# Altium schematic symbol library LIB_SCH_Main.SchLib: 26 symbols
Pins are listed as number, name and electrical type; pins without a type are passive.

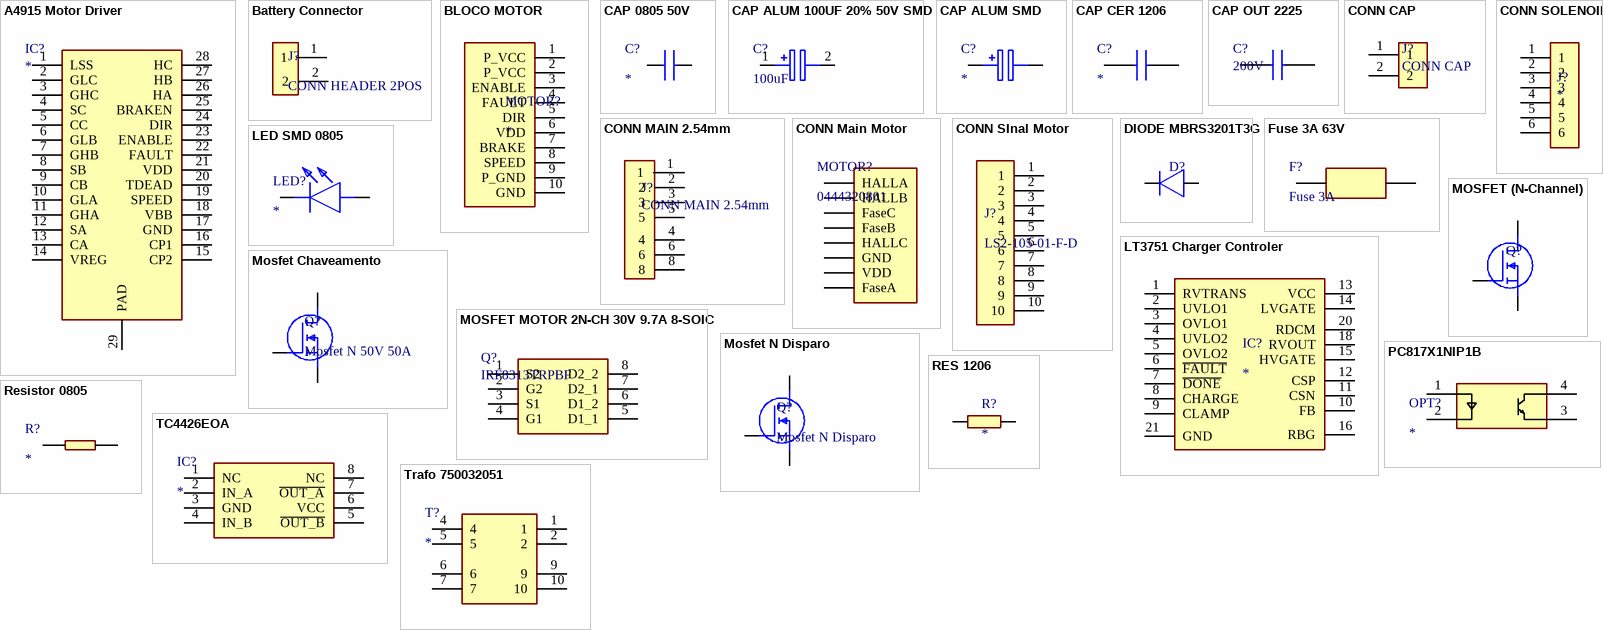
[diagram p0: symbols A4915 Motor Driver to Trafo 750032051]

## A4915 Motor Driver
designator IC?
Integrated Circuit / 28-Pin TSSOP / with Exposed Thermal Pad / https://pdf1.alldatasheet.com/datasheet-pdf/view/848035/ALLEGRO/A4915.html; Manufacturer_Name: Allegro Microsystems; Manufacturer_Part_Number: A4915MLPTR-T; Datasheet Link: http://www.allegromicro.com/~/media/Files/Datasheets/A4915-Datasheet.ashx; Height: 1.2mm
footprint A4915 Motor Driver (28-Pin TSSOP  with Exposed Thermal Pad)
pins: 1 LSS, 2 GLC, 3 GHC, 4 SC, 5 CC, 6 GLB, 7 GHB, 8 SB, 9 CB, 10 GLA, 11 GHA, 12 SA, 13 CA, 14 VREG, 15 CP2, 16 CP1, 17 GND, 18 VBB, 19 SPEED, 20 TDEAD, 21 VDD, 22 FAULT, 23 ENABLE, 24 DIR, 25 BRAKEN, 26 HA, 27 HB, 28 HC, 29 PAD

## Battery Connector
designator J?, comment CONN HEADER 2POS
CONN HEADER R/A 2POS 2.54MM / 22-05-3021 / WM4300-ND; Manufacturer_Name: Molex; Allied_Number: 70190620; Datasheet Link: http://www.molex.com/webdocs/datasheets/pdf/en-us/0022053031_PCB_HEADERS.pdf; Manufacturer_Part_Number: 22-05-3021; Mouser Part Number: 538-22-05-3021; Mouser Price/Stock: https://www.mouser.com/Search/Refine.aspx?Keyword=538-22-05-3021; RS Part Number: 6795448; RS Price/Stock: https://uk.rs-online.com/web/p/products/6795448; Allied Price/Stock: https://www.alliedelec.com/molex-incorporated-22-05-3021/70190620/
footprint Battery Connector (22-05-3021)
pins: 1, 2

## BLOCO MOTOR
designator MOTOR?
footprint BlocoMotor
pins: 1 P_VCC, 2 P_VCC, 3 ENABLE, 4 FAULT, 5 DIR, 6 VDD, 7 BRAKE, 8 SPEED, 9 P_GND, 10 GND

## CAP 0805 50V
designator C?
Capacitor / 08055A101JAT2A; Manufacturer_Name: AVX; Allied_Number: 70474488; Datasheet Link: https://componentsearchengine.com/Datasheets/1/06031A100FAT2A.pdf; Height: 0.94mm; Manufacturer_Part_Number: 08055A101JAT2A; Mouser Part Number: 581-08055A101J; Mouser Price/Stock: https://www.mouser.com/Search/Refine.aspx?Keyword=581-08055A101J; RS Part Number: 1243222; RS Price/Stock: https://uk.rs-online.com/web/p/products/1243222; Allied Price/Stock: https://www.alliedelec.com/avx-08055a101jat2a/70474488/
footprint CAP0805 50v (CAPC2012X94N)
pins: 1, 2

## CAP ALUM 100UF 20% 50V SMD
designator C?, comment 100uF
100µF 50V Aluminum Electrolytic Capacitors Radial, Can - SMD 5000 Hrs @ 105°C / UCD1H101MNL1GS / 493-6388-6-ND; Manufacturer_Name: Nichicon; Allied_Number: 70409359; Datasheet Link: http://www.nichicon.co.jp/english/products/pdfs/e-ucd.pdf; Height: 10.5mm; Manufacturer_Part_Number: UCD1H101MNL1GS; Mouser Part Number: 647-UCD1H101MNL1GS; Mouser Price/Stock: https://www.mouser.com/Search/Refine.aspx?Keyword=647-UCD1H101MNL1GS; RS Part Number: 7151372P; RS Price/Stock: http://uk.rs-online.com/web/p/products/7151372P; Allied Price/Stock: https://www.alliedelec.com/nichicon-ucd1h101mnl1gs/70409359/
footprint CAP ALUM 100UF (CAP ALUM 100UF 20% 50V SMD)
pins: 1 +, 2 -

## CAP ALUM SMD
designator C?
Capacitor Polarised / EEE-FK1E101P / PCE3796TR-ND; Manufacturer_Name: Panasonic; Allied_Number: 70258245; Datasheet Link: https://industrial.panasonic.com/cdbs/www-data/pdf/RDE0000/ABA0000C1181.pdf; Height: 6.5mm; Manufacturer_Part_Number: EEE-FK1E101P; Mouser Part Number: 667-EEE-FK1E101P; Mouser Price/Stock: https://www.mouser.com/Search/Refine.aspx?Keyword=667-EEE-FK1E101P; Allied Price/Stock: https://www.alliedelec.com/panasonic-eee-fk1e101p/70258245/
footprint CAP ALUM SMD (CAPAE830X650N)
pins: 1 +, 2 -

## CAP CER 1206
designator C?
Capacitor C3216C0G1H103J060AA; Manufacturer_Name: TDK; Datasheet Link: https://product.tdk.com/info/en/catalog/datasheets/mlcc_commercial_midvoltage_en.pdf; Height: 0.75mm; Manufacturer_Part_Number: C3216C0G1H103J060AA; Mouser Part Number: 810-C3216C0G1H103J-1; Mouser Price/Stock: https://www.mouser.com/Search/Refine.aspx?Keyword=810-C3216C0G1H103J-1; RS Part Number: 7407467P; RS Price/Stock: http://uk.rs-online.com/web/p/products/7407467P
footprint CAPCER1206 (CAPC3317X75N)
pins: 1, 2

## CAP OUT 2225
designator C?, comment 200V
Capacitor / CAP CER 1UF 200V X7R 2225 / 720-1136-1-ND / VJ2225Y105KXCAT; Manufacturer_Name: AVX; Manufacturer_Part_Number: 2225HC103KAZ1A; Datasheet Link: http://datasheets.avx.com/HV-FlexitermMLCC.pdf; Height: 3.4mm; Mouser Part Number: 581-2225HC103KAZ1A; Mouser Price/Stock: https://www.mouser.com/Search/Refine.aspx?Keyword=581-2225HC103KAZ1A
footprint CAP OUT 2225 (CAP CER 200V 2225)
pins: 1, 2

## CONN CAP
designator J?
Connector / CONN HEADER VERT 2POS 3.96MM / 0009652028 / WM18823-ND; Manufacturer_Name: Molex; Allied_Number: 70374002; Datasheet Link: https://www.molex.com/webdocs/datasheets/pdf/en-us/0009652028_PCB_HEADERS.pdf; Height: 14.25mm; Manufacturer_Part_Number: 09-65-2028; Mouser Part Number: 538-09-65-2028; Mouser Price/Stock: https://www.mouser.com/Search/Refine.aspx?Keyword=538-09-65-2028; RS Part Number: 6705237P; RS Price/Stock: http://uk.rs-online.com/web/p/products/6705237P; Allied Price/Stock: https://www.alliedelec.com/molex-incorporated-09-65-2028/70374002/
footprint CONN CAP (CONN HEADER VERT 2POS 3.96MM)
pins: 1, 2

## CONN MAIN 2.54mm
designator J?
Connector / CONN HEADER VERT 8POS 2.54MM / M20-9980445 / 952-2122-ND; Manufacturer_Name: FCI; Manufacturer_Part_Number: 20021311-00010T4LF; Datasheet Link: http://portal.fciconnect.com/Comergent//fci/drawing/20021311.pdf; Height: 4.6mm; Mouser Part Number: 649-221311-00010T4LF; Mouser Price/Stock: https://www.mouser.com/Search/Refine.aspx?Keyword=649-221311-00010T4LF
footprint CONN MAIN 2.54mm (CONN HEADER VERT 8POS 2.54MM)
pins: 1, 2, 3, 4, 5, 6, 8

## CONN Main Motor
designator MOTOR?, comment 0444320801
CONN HEADER VERT 8POS 3MM / 0444320801 / Connector Header Through Hole 8 position 0.118" (3.00mm); Manufacturer_Name: Molex; Manufacturer_Part_Number: 0444320802; Datasheet Link: http://static6.arrow.com/aropdfconversion/70af9c395913d6e0132bcfc0bf15a6e7757c94/0444320802_pcb_headers.pdf; Height: 11mm
footprint CONN Main Motor (CONN HEADER VERT 8POS 3MM)
pins: 1 HALLA, 2 HALLB, 3 FaseC, 4 FaseB, 5 HALLC, 6 GND, 7 VDD, 8 FaseA

## CONN SInal Motor
designator J?, comment LS2-105-01-F-D
CONN SELF-MATE 10POS VERT GOLD / SAM11451-ND / LS2-105-01-F-D /; Manufacturer_Name: FCI; Manufacturer_Part_Number: 10132797-015100LF; Description: Board to Board & Mezzanine Connectors 4.3mm Height,Dbl Rw 10P; Datasheet Link: https://www.amphenol-icc.com/media/wysiwyg/files/drawing/10132797.pdf; Height: 2mm; Mouser Part Number: 649-10132797015100LF; Mouser Price/Stock: https://www.mouser.com/Search/Refine.aspx?Keyword=649-10132797015100LF
footprint CONN SINAL 10POS (CONN Sinal MOTOR RCPT 10POS SMD GOLD)
pins: 1, 2, 3, 4, 5, 6, 7, 8, 9, 10

## CONN SOLENOID
designator J?
Connector / CONN HEADER VERT 6POS 3.96MM / 0026604060 / WM4624-ND; Manufacturer_Name: TE Connectivity; Manufacturer_Part_Number: 640445-6; Allied_Number: 70083693; Datasheet Link: http://www.te.com/commerce/DocumentDelivery/DDEController?Action=srchrtrv&DocNm=640445&DocType=Customer+Drawing&DocLang=English; Height: 11.049mm; Mouser Part Number: 571-6404456; Mouser Price/Stock: https://www.mouser.com/Search/Refine.aspx?Keyword=571-6404456; RS Part Number: 1789596P; RS Price/Stock: http://uk.rs-online.com/web/p/products/1789596P; Allied Price/Stock: https://www.alliedelec.com/te-connectivity-640445-6/70083693/
footprint CONN SOLENOID (SHDR6W183P0X396_1X6_2377X762X1105P)
pins: 1, 2, 3, 4, 5, 6

## DIODE MBRS3201T3G
designator D?  (value not drawn)
Diode / MBRS3201T3G; Manufacturer_Name: ON Semiconductor; Allied_Number: 70339717; Datasheet Link: http://www.onsemi.com/pub/Collateral/MBRS3201T3-D.PDF; Height: 2.56mm; Manufacturer_Part_Number: MBRS3201T3G; Mouser Part Number: 863-MBRS3201T3G; Mouser Price/Stock: https://www.mouser.com/Search/Refine.aspx?Keyword=863-MBRS3201T3G; RS Part Number: 7925640P; RS Price/Stock: http://uk.rs-online.com/web/p/products/7925640P; Allied Price/Stock: http://www.alliedelec.com/on-semiconductor-mbrs3201t3g/70339717/
footprint DIODE MBRS3201T (Diode)
pins: 1 K, 2 A

## Fuse 3A 63V
designator F?, comment Fuse 3A
Fuse / FUSE 3.0A 63VAC/DC SLOW 1206 / 507-1896-1-ND / 0685T3000-01; Manufacturer_Name: LITTELFUSE; Manufacturer_Part_Number: 0466001.NRHF; Datasheet Link: http://www.mouser.com/datasheet/2/240/Littelfuse_Fuse_466_Datasheet.pdf-1317335.pdf; Height: 0.66mm; Mouser Part Number: 576-0466001.NRHF; Mouser Price/Stock: https://www.mouser.com/Search/Refine.aspx?Keyword=576-0466001.NRHF
footprint Fuse 3A 63V (FUSC3215X66N)
pins: 1, 2

## LED SMD 0805
designator LED?
LED / LED Indication - Discrete 2V 0805 (2012 Metric) / LTST-C170KRKT / 160-1415-1-ND; Manufacturer_Name: Lite-On; Datasheet Link: https://componentsearchengine.com/Datasheets/1/LTST-C170KRKT.pdf; Height: 1.2mm; Manufacturer_Part_Number: LTST-C170KRKT; Mouser Part Number: 859-LTST-C170KRKT; Mouser Price/Stock: https://www.mouser.com/Search/Refine.aspx?Keyword=859-LTST-C170KRKT; RS Part Number: 6920916P; RS Price/Stock: http://uk.rs-online.com/web/p/products/6920916P
footprint LED SMD (LED Indication - Discrete 2V 0805 (2012 Metric))
pins: 1 K, 2 A

## LT3751 Charger Controler
designator IC?
Integrated Circuit; Manufacturer_Name: Linear Technology; Manufacturer_Part_Number: LT3751EFEPBF
footprint LT3751 Charger Controler
pins: 1 RVTRANS, 2 UVLO1, 3 OVLO1, 4 UVLO2, 5 OVLO2, 6 ~{FAULT}, 7 ~{DONE}, 8 CHARGE, 9 CLAMP, 10 FB, 11 CSN, 12 CSP, 13 VCC, 14 LVGATE, 15 HVGATE, 16 RBG, 17 NC hidden, 18 RVOUT, 19 NC hidden, 20 RDCM, 21 GND

## MOSFET (N-Channel)
designator Q?, comment IXFQ94N30P3  (value not drawn)
MOSFET N-CH 300V 94A TO-3P / IXFQ94N30P3; Manufacturer_Name: Infineon; Manufacturer_Part_Number: IRFP250NPBF; Allied_Number: 70017035; Datasheet Link: http://www.irf.com/product-info/datasheets/data/irfp250npbf.pdf; Height: 5.3mm; Mouser Part Number: 942-IRFP250NPBF; Mouser Price/Stock: https://www.mouser.com/Search/Refine.aspx?Keyword=942-IRFP250NPBF; RS Part Number: 5410042P; RS Price/Stock: http://uk.rs-online.com/web/p/products/5410042P; Allied Price/Stock: https://www.alliedelec.com/infineon-irfp250npbf/70017035/
footprint MOSFET (N-Channel) (MOSFET N-CH 300V 94A TO-3P)
pins: 1 G, 2 D, 3 S

## Mosfet Chaveamento
designator Q?, comment Mosfet N 50V 50A
MOSFET (N-Channel) / N-Channel 50V 50A (Tc) 75W (Tc) Surface Mount TO-252AA / SQD50N05-11L_GE3 / SQD50N05-11L_GE3CT-ND; Manufacturer_Name: Alpha & Omega Semiconductors; Manufacturer_Part_Number: AOD4189; Datasheet Link: http://aosmd.com/res/data_sheets/AOD4189.pdf; Height: 2mm
footprint Mosfet Chaveamento (Mosfet-N 50V 50A)
pins: 1 G, 2 D, 3 S

## MOSFET MOTOR 2N-CH 30V 9.7A 8-SOIC
designator Q?, comment IRF8313TRPBF
Mosfet Array 2 N-Channel (Dual) 30V 9.7A 2W Surface Mount 8-SO / IRF8313TRPBFTR-ND; Manufacturer_Name: Infineon; Allied_Number: 70018020; Datasheet Link: https://www.infineon.com/dgdl/irf8313pbf.pdf?fileId=5546d462533600a40153560d38521d63; Height: 1.75mm; Manufacturer_Part_Number: IRF8313TRPBF; Mouser Part Number: 942-IRF8313TRPBF; Mouser Price/Stock: https://www.mouser.com/Search/Refine.aspx?Keyword=942-IRF8313TRPBF; RS Part Number: 8273903; RS Price/Stock: https://uk.rs-online.com/web/p/products/8273903; Allied Price/Stock: https://www.alliedelec.com/infineon-irf8313trpbf/70018020/
footprint MOSFET MOTOR 2N-CH 30V 9.7A 8-SOIC
pins: 1 S2, 2 G2, 3 S1, 4 G1, 5 D1_1, 6 D1_2, 7 D2_1, 8 D2_2

## Mosfet N Disparo
designator Q?
MOSFET (N-Channel) / N-Channel 300V 56A (Tc) 320W (Tc) Surface Mount TO-263AA / IXFA56N30X3-ND / 300V/56A ULTRA JUNCTION X3-CLASS; Manufacturer_Name: ON Semiconductor; Manufacturer_Part_Number: BBS3002-TL-1E; Datasheet Link: https://www.onsemi.com/pub/Collateral/BBS3002-D.PDF; Height: 4.83mm; Mouser Part Number: 863-BBS3002-TL-1E; Mouser Price/Stock: https://www.mouser.com/Search/Refine.aspx?Keyword=863-BBS3002-TL-1E
footprint Mosfet Disparo 2 (Mosfet N Disparo)
pins: 1 G, 2 D, 3 S

## PC817X1NIP1B
designator OPT?
Integrated Circuit; Manufacturer_Name: Sharp Microelectronics; Manufacturer_Part_Number: PC817X1NIP1B; Datasheet Link: https://cdn.sharpsde.com/fileadmin/products/Optoelectronics/Isolation%20Devices/Specs%20Photocoupler/PC817XxNIP1B_12Oct16_Spec_ED-16P011.pdf; Height: 4.2mm; Mouser Part Number: 852-PC817X1NIP1B; Mouser Price/Stock: https://www.mouser.com/Search/Refine.aspx?Keyword=852-PC817X1NIP1B
footprint SOP254_Opto_PC817 (PC817X1NIP1B)
pins: 1 ANODE, 2 CATHODE, 3 EMITTER, 4 COLLECTOR

## RES 1206
designator R?
Resistor CR1206-FW-1504ELF; Manufacturer_Name: Bourns; Datasheet Link: http://componentsearchengine.com/Datasheets/1/CR1206-FW-1504ELF.pdf; Height: 0.75mm; Manufacturer_Part_Number: CR1206-FW-1504ELF; Mouser Part Number: 652-CR1206FW1504ELF; Mouser Price/Stock: https://www.mouser.com/Search/Refine.aspx?Keyword=652-CR1206FW1504ELF
footprint Res 1206 (RESC3216X75N)
pins: 1, 2

## Resistor 0805
designator R?
Resistor; Manufacturer_Name: TE Connectivity; Manufacturer_Part_Number: CPF0805B105RE1; Datasheet Link: http://docs-europe.electrocomponents.com/webdocs/13d1/0900766b813d116f.pdf; Height: 0.65mm; Mouser Part Number: 279-CPF0805B105RE1; Mouser Price/Stock: https://www.mouser.com/Search/Refine.aspx?Keyword=279-CPF0805B105RE1; RS Part Number: 1239398; RS Price/Stock: http://uk.rs-online.com/web/p/products/1239398
footprint RES 0805 (RESC2012X65N)
pins: 1, 2

## TC4426EOA
designator IC?
Integrated Circuit; Manufacturer_Name: Microchip; Manufacturer_Part_Number: TC4426EOA; Allied_Number: 70046935; Datasheet Link: http://ww1.microchip.com/downloads/en/DeviceDoc/20001422G.pdf; Height: 1.75mm; Mouser Part Number: 579-TC4426EOA; Mouser Price/Stock: https://www.mouser.com/Search/Refine.aspx?Keyword=579-TC4426EOA; RS Part Number: 6684345; RS Price/Stock: https://uk.rs-online.com/web/p/products/6684345; Allied Price/Stock: https://www.alliedelec.com/microchiptechnologyinc-tc4426eoa/70046935/
footprint SOIC127_TC4426 - duplicate (TC4426)
pins: 1 NC, 2 IN_A, 3 GND, 4 IN_B, 5 ~{OUT_B}, 6 VCC, 7 ~{OUT_A}, 8 NC

## Trafo 750032051
designator T?
Transformer; Manufacturer_Name: Wurth Elektronik; Manufacturer_Part_Number: 750032051; Mouser Part Number: N/A; Mouser Price/Stock: https://www.mouser.com/Search/Refine.aspx?Keyword=N%2FA
footprint Trafo Flyback (750032051)
pins: 1, 2, 3 hidden, 4, 5, 6, 7, 8 hidden, 9, 10